# Altium footprint library MF-SM150-33.PcbLib: 1 footprints
Each footprint in its own frame and in the unit in brackets; x right, y up, seen from the top. Pads: shape width x height; smd on the part's side, far side on the other; paste and mask are expansions set on the pad; w line width, h text height; cw(c..) or ccw(c..) is an arc to the next point about the centre after c.
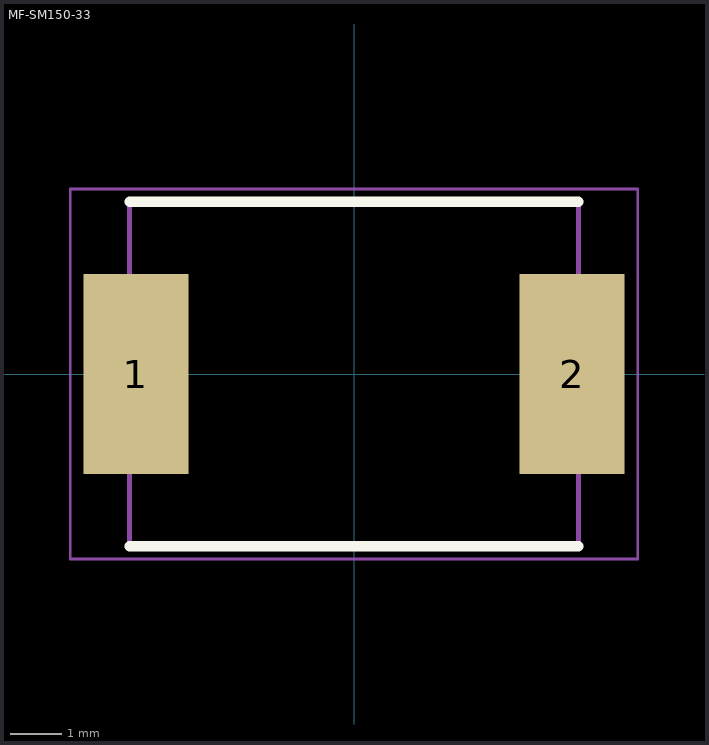
[diagram p0: the footprint, top view; thin cyan lines are the x and y axes]

## MF-SM150-33 [mm]
pads (2):
  rect 2.05x3.9 smd: 1(-4.25,0) 2(4.25,0)
Top Overlay:
  lines w0.2: -4.375,-3.355 4.375,-3.355 ; -4.375,3.355 4.375,3.355
Top 3D Body:
  lines w0.1: -4.375,-3.355 4.375,-3.355 4.375,3.355 -4.375,3.355 -4.375,-3.355
Top Courtyard:
  lines w0.05: -5.525,-3.605 5.525,-3.605 5.525,3.605 -5.525,3.605 -5.525,-3.605
3D body "MF-SM150_33-2.stp": height 3, standoff 0, extent -4.375,-3.36 4.375,3.35